# Altium schematic symbol library STM32.SchLib: 2 symbols
Pins are listed as number, name and electrical type; pins without a type are passive.

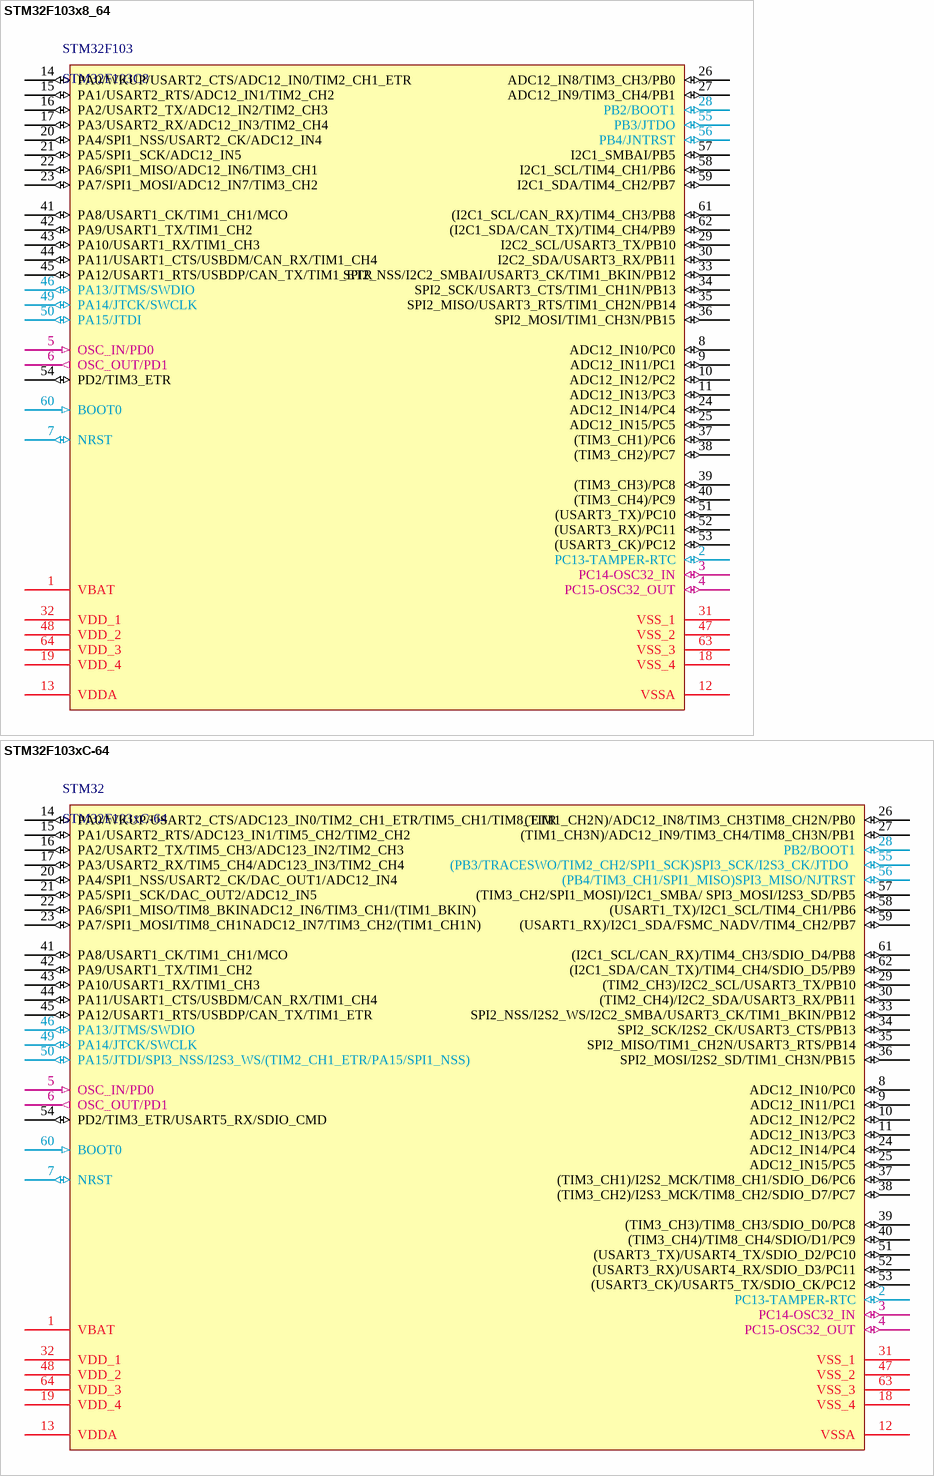
[diagram p0: symbols STM32F103x8_64 to STM32F103xC-64]

## STM32F103x8_64
designator STM32F103, comment STM32F103C8
STM32F103x8-STM32F103xB 中等容量增强型
pins: 1 VBAT (power), 2 PC13-TAMPER-RTC (io), 3 PC14-OSC32_IN (io), 4 PC15-OSC32_OUT (io), 5 OSC_IN/PD0 (in), 6 OSC_OUT/PD1 (out), 7 NRST (io), 8 ADC12_IN10/PC0 (io), 9 ADC12_IN11/PC1 (io), 10 ADC12_IN12/PC2 (io), 11 ADC12_IN13/PC3 (io), 12 VSSA (power), 13 VDDA (power), 14 PA0/WKUP/USART2_CTS/ADC12_IN0/TIM2_CH1_ETR (io), 15 PA1/USART2_RTS/ADC12_IN1/TIM2_CH2 (io), 16 PA2/USART2_TX/ADC12_IN2/TIM2_CH3 (io), 17 PA3/USART2_RX/ADC12_IN3/TIM2_CH4 (io), 18 VSS_4 (power), 19 VDD_4 (power), 20 PA4/SPI1_NSS/USART2_CK/ADC12_IN4 (io), 21 PA5/SPI1_SCK/ADC12_IN5 (io), 22 PA6/SPI1_MISO/ADC12_IN6/TIM3_CH1 (io), 23 PA7/SPI1_MOSI/ADC12_IN7/TIM3_CH2 (io), 24 ADC12_IN14/PC4 (io), 25 ADC12_IN15/PC5 (io), 26 ADC12_IN8/TIM3_CH3/PB0 (io), 27 ADC12_IN9/TIM3_CH4/PB1 (io), 28 PB2/BOOT1 (io), 29 I2C2_SCL/USART3_TX/PB10 (io), 30 I2C2_SDA/USART3_RX/PB11 (io), 31 VSS_1 (power), 32 VDD_1 (power), 33 SPI2_NSS/I2C2_SMBAI/USART3_CK/TIM1_BKIN/PB12 (io), 34 SPI2_SCK/USART3_CTS/TIM1_CH1N/PB13 (io), 35 SPI2_MISO/USART3_RTS/TIM1_CH2N/PB14 (io), 36 SPI2_MOSI/TIM1_CH3N/PB15 (io), 37 (TIM3_CH1)/PC6 (io), 38 (TIM3_CH2)/PC7 (io), 39 (TIM3_CH3)/PC8 (io), 40 (TIM3_CH4)/PC9 (io), 41 PA8/USART1_CK/TIM1_CH1/MCO (io), 42 PA9/USART1_TX/TIM1_CH2 (io), 43 PA10/USART1_RX/TIM1_CH3 (io), 44 PA11/USART1_CTS/USBDM/CAN_RX/TIM1_CH4 (io), 45 PA12/USART1_RTS/USBDP/CAN_TX/TIM1_ETR (io), 46 PA13/JTMS/SWDIO (io), 47 VSS_2 (power), 48 VDD_2 (power), 49 PA14/JTCK/SWCLK (io), 50 PA15/JTDI (io), 51 (USART3_TX)/PC10 (io), 52 (USART3_RX)/PC11 (io), 53 (USART3_CK)/PC12 (io), 54 PD2/TIM3_ETR (io), 55 PB3/JTDO (io), 56 PB4/JNTRST (io), 57 I2C1_SMBAI/PB5 (io), 58 I2C1_SCL/TIM4_CH1/PB6 (io), 59 I2C1_SDA/TIM4_CH2/PB7 (io), 60 BOOT0 (in), 61 (I2C1_SCL/CAN_RX)/TIM4_CH3/PB8 (io), 62 (I2C1_SDA/CAN_TX)/TIM4_CH4/PB9 (io), 63 VSS_3 (power), 64 VDD_3 (power)

## STM32F103xC-64
designator STM32
STM32F103xC STM32F103xD STM32F103xE High-density performance line
footprint my_LQFP64_L (Thin QFP, 64-Leads, Body 10x10mm, Pitch 0.5mm, IPC High Density)
footprint my_LQFP64_M (Thin QFP, 64-Leads, Body 10x10mm, Pitch 0.5mm, IPC Low Density)
footprint my_LQFP64_N (Thin QFP, 64-Leads, Body 10x10mm, Pitch 0.5mm, IPC Medium Density)
pins: 1 VBAT (power), 2 PC13-TAMPER-RTC (io), 3 PC14-OSC32_IN (io), 4 PC15-OSC32_OUT (io), 5 OSC_IN/PD0 (in), 6 OSC_OUT/PD1 (out), 7 NRST (io), 8 ADC12_IN10/PC0 (io), 9 ADC12_IN11/PC1 (io), 10 ADC12_IN12/PC2 (io), 11 ADC12_IN13/PC3 (io), 12 VSSA (power), 13 VDDA (power), 14 PA0/WKUP/USART2_CTS/ADC123_IN0/TIM2_CH1_ETR/TIM5_CH1/TIM8_ETR (io), 15 PA1/USART2_RTS/ADC123_IN1/TIM5_CH2/TIM2_CH2 (io), 16 PA2/USART2_TX/TIM5_CH3/ADC123_IN2/TIM2_CH3 (io), 17 PA3/USART2_RX/TIM5_CH4/ADC123_IN3/TIM2_CH4 (io), 18 VSS_4 (power), 19 VDD_4 (power), 20 PA4/SPI1_NSS/USART2_CK/DAC_OUT1/ADC12_IN4 (io), 21 PA5/SPI1_SCK/DAC_OUT2/ADC12_IN5 (io), 22 PA6/SPI1_MISO/TIM8_BKINADC12_IN6/TIM3_CH1/(TIM1_BKIN) (io), 23 PA7/SPI1_MOSI/TIM8_CH1NADC12_IN7/TIM3_CH2/(TIM1_CH1N) (io), 24 ADC12_IN14/PC4 (io), 25 ADC12_IN15/PC5 (io), 26 (TIM1_CH2N)/ADC12_IN8/TIM3_CH3TIM8_CH2N/PB0 (io), 27 (TIM1_CH3N)/ADC12_IN9/TIM3_CH4/TIM8_CH3N/PB1 (io), 28 PB2/BOOT1 (io), 29 (TIM2_CH3)/I2C2_SCL/USART3_TX/PB10 (io), 30 (TIM2_CH4)/I2C2_SDA/USART3_RX/PB11 (io), 31 VSS_1 (power), 32 VDD_1 (power), 33 SPI2_NSS/I2S2_WS/I2C2_SMBA/USART3_CK/TIM1_BKIN/PB12 (io), 34 SPI2_SCK/I2S2_CK/USART3_CTS/PB13 (io), 35 SPI2_MISO/TIM1_CH2N/USART3_RTS/PB14 (io), 36 SPI2_MOSI/I2S2_SD/TIM1_CH3N/PB15 (io), 37 (TIM3_CH1)/I2S2_MCK/TIM8_CH1/SDIO_D6/PC6 (io), 38 (TIM3_CH2)/I2S3_MCK/TIM8_CH2/SDIO_D7/PC7 (io), 39 (TIM3_CH3)/TIM8_CH3/SDIO_D0/PC8 (io), 40 (TIM3_CH4)/TIM8_CH4/SDIO/D1/PC9 (io), 41 PA8/USART1_CK/TIM1_CH1/MCO (io), 42 PA9/USART1_TX/TIM1_CH2 (io), 43 PA10/USART1_RX/TIM1_CH3 (io), 44 PA11/USART1_CTS/USBDM/CAN_RX/TIM1_CH4 (io), 45 PA12/USART1_RTS/USBDP/CAN_TX/TIM1_ETR (io), 46 PA13/JTMS/SWDIO (io), 47 VSS_2 (power), 48 VDD_2 (power), 49 PA14/JTCK/SWCLK (io), 50 PA15/JTDI/SPI3_NSS/I2S3_WS/(TIM2_CH1_ETR/PA15/SPI1_NSS) (io), 51 (USART3_TX)/USART4_TX/SDIO_D2/PC10 (io), 52 (USART3_RX)/USART4_RX/SDIO_D3/PC11 (io), 53 (USART3_CK)/USART5_TX/SDIO_CK/PC12 (io), 54 PD2/TIM3_ETR/USART5_RX/SDIO_CMD (io), 55 (PB3/TRACESWO/TIM2_CH2/SPI1_SCK)SPI3_SCK/I2S3_CK/JTDO   (io), 56 (PB4/TIM3_CH1/SPI1_MISO)SPI3_MISO/NJTRST (io), 57 (TIM3_CH2/SPI1_MOSI)/I2C1_SMBA/ SPI3_MOSI/I2S3_SD/PB5 (io), 58 (USART1_TX)/I2C1_SCL/TIM4_CH1/PB6 (io), 59 (USART1_RX)/I2C1_SDA/FSMC_NADV/TIM4_CH2/PB7 (io), 60 BOOT0 (in), 61 (I2C1_SCL/CAN_RX)/TIM4_CH3/SDIO_D4/PB8 (io), 62 (I2C1_SDA/CAN_TX)/TIM4_CH4/SDIO_D5/PB9 (io), 63 VSS_3 (power), 64 VDD_3 (power)